# EAGLE library part ML10 (library omc)
Digikey: S9012E-05-ND
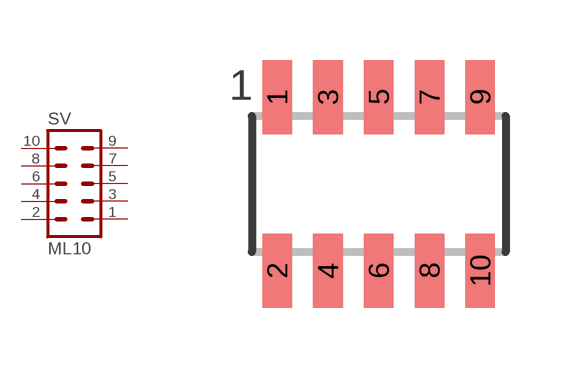
[diagram p9: symbol with the pads of SMD_HEADER_1.27MM_2X5; footprint SMD_HEADER_1.27MM_2X5]

Designator prefix SV

## ML10  [SMD_HEADER_1.27MM_2X5]
1  1  pas
2  2  pas
3  3  pas
4  4  pas
5  5  pas
6  6  pas
7  7  pas
8  8  pas
9  9  pas
10  10  pas

## Footprint SMD_HEADER_1.27MM_2X5 (pad centres in mm)
Sullins - Male Headers SMT 1.27mm
smd 0.74 x 1.85: 1 -2.54,2.17; 2 -2.54,-2.17; 3 -1.27,2.17; 4 -1.27,-2.17; 5 0,2.17; 6 0,-2.17; 7 1.27,2.17; 8 1.27,-2.17; 9 2.54,2.17; 10 2.54,-2.17